# EAGLE library part ADC081 (library we-chip)
TI ADC081 ADC (8-Bit, 2.7-5.5V)
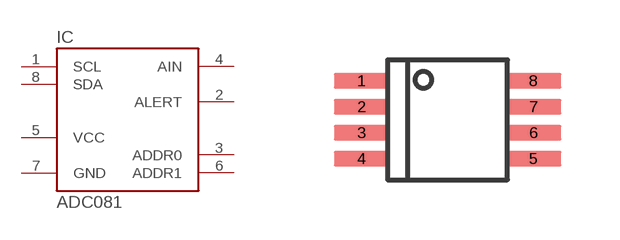
[diagram p56: symbol with the pads of MSOP08; footprint MSOP08]

Designator prefix IC

## ADC081C021CIMM  [MSOP08]
1  SCL
2  ALERT  out
3  ADDR0  in
4  AIN  pas
5  VCC  pwr
6  ADDR1  in
7  GND  pwr
8  SDA

## Footprint MSOP08 (pad centres in mm)
smd 1.4 x 0.4: 1 -2.15,0.975; 2 -2.15,0.325; 3 -2.15,-0.325; 4 -2.15,-0.975; 5 2.15,-0.975; 6 2.15,-0.325; 7 2.15,0.325; 8 2.15,0.975